# Altium footprint library 4-794618-6.PcbLib: 2 footprints
Each footprint in its own frame and in the unit in brackets; x right, y up, seen from the top. Pads: shape width x height; smd on the part's side, far side on the other; paste and mask are expansions set on the pad; w line width, h text height; cw(c..) or ccw(c..) is an arc to the next point about the centre after c.
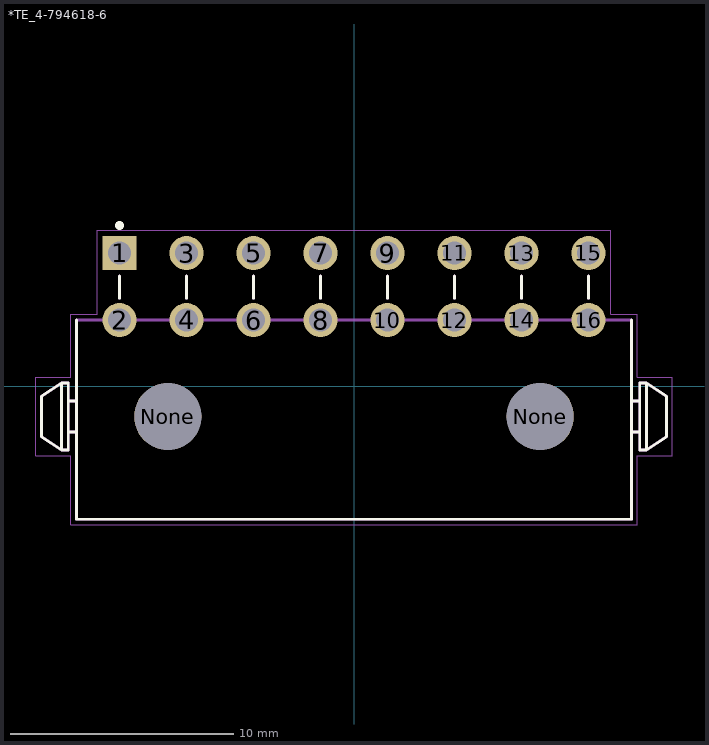
[diagram p0: the footprints below, top view; thin cyan lines are the x and y axes]

## *TE_4-794618-6 [mm]
pads (18):
  rect 1.53x1.53 hole 1.02: 1(-10.5,5.96)
  round 1.53 hole 1.02: 2(-10.5,2.96) 3(-7.5,5.96) 4(-7.5,2.96) 5(-4.5,5.96) 6(-4.5,2.96) 7(-1.5,5.96) 8(-1.5,2.96) 9(1.5,5.96) 10(1.5,2.96) 11(4.5,5.96) 12(4.5,2.96) 13(7.5,5.96) 14(7.5,2.96) 15(10.5,5.96) 16(10.5,2.96)
  round 3 hole 3 unplated: None(-8.34,-1.36) None(8.34,-1.36)
Top Overlay:
  circle w0.2: c-10.5,7.198 r0.1
  lines w0.127: -12.5,-2.06 -12.8,-2.06 ; -12.5,-0.66 -12.8,-0.66 ; -12.43,2.96 -12.43,-5.96 12.43,-5.96 12.43,2.96 ; -10.5,3.94 -10.5,4.94 ; -7.5,3.94 -7.5,4.94 ; -4.5,3.94 -4.5,4.94 ; -1.5,3.94 -1.5,4.94 ; 1.5,3.94 1.5,4.94 ; 4.5,3.94 4.5,4.94 ; 7.5,3.94 7.5,4.94 ; 10.5,3.94 10.5,4.94 ; 12.5,-2.06 12.8,-2.06 ; 12.5,-0.66 12.8,-0.66 ; -13.1,-2.86 -14,-2.26 -14,-0.46 -13.1,0.14 ; -13.1,-2.86 -13.1,0.14 ; -13.1,-2.86 -12.8,-2.86 -12.8,-2.06 ; -13.1,0.14 -12.8,0.14 -12.8,-0.66 ; -12.8,-2.06 -12.8,-0.66 ; 12.8,-2.06 12.8,-0.66 ; 12.8,-2.06 12.8,-2.86 13.1,-2.86 ; 12.8,-0.66 12.8,0.14 13.1,0.14 ; 13.1,-2.86 14,-2.26 14,-0.46 13.1,0.14 ; 13.1,-2.86 13.1,0.14
Mechanical 4:
  lines w0.127: -14,-2.26 -13.1,-2.86 ; -14,-2.26 -14,-0.46 ; -14,-2.26 -13.1,-2.86 ; -14,-2.26 -14,-0.46 ; -14,-0.46 -13.1,0.14 ; -14,-0.46 -13.1,0.14 ; -13.1,-2.86 -13.1,0.14 ; -13.1,-2.86 -12.8,-2.86 ; -13.1,-2.86 -13.1,0.14 ; -13.1,-2.86 -12.8,-2.86 ; -13.1,0.14 -12.8,0.14 ; -13.1,0.14 -12.8,0.14 ; -12.8,-2.86 -12.8,-2.06 ; -12.8,-2.86 -12.8,-2.06 ; -12.8,-2.06 -12.8,-0.66 ; -12.8,-2.06 -12.5,-2.06 -12.8,-2.06 ; -12.8,-2.06 -12.8,-0.66 ; -12.8,-0.66 -12.8,0.14 ; -12.8,-0.66 -12.5,-0.66 -12.8,-0.66 ; -12.8,-0.66 -12.8,0.14 ; -12.43,-5.96 -12.43,2.96 ; -12.43,-5.96 12.43,-5.96 ; -12.43,-5.96 -12.43,2.96 ; -12.43,-5.96 12.43,-5.96 ; -12.43,2.96 12.43,2.96 ; -12.43,2.96 12.43,2.96 ; 12.43,-5.96 12.43,2.96 ; 12.43,-5.96 12.43,2.96 ; 12.8,-2.86 13.1,-2.86 ; 12.8,-2.86 12.8,-2.06 ; 12.8,-2.86 13.1,-2.86 ; 12.8,-2.86 12.8,-2.06 ; 12.8,-2.06 12.8,-0.66 ; 12.8,-2.06 12.5,-2.06 12.8,-2.06 ; 12.8,-2.06 12.8,-0.66 ; 12.8,-0.66 12.8,0.14 ; 12.8,-0.66 12.5,-0.66 12.8,-0.66 ; 12.8,-0.66 12.8,0.14 ; 12.8,0.14 13.1,0.14 ; 12.8,0.14 13.1,0.14 ; 13.1,-2.86 14,-2.26 ; 13.1,-2.86 13.1,0.14 ; 13.1,-2.86 14,-2.26 ; 13.1,-2.86 13.1,0.14 ; 13.1,0.14 14,-0.46 ; 13.1,0.14 14,-0.46 ; 14,-2.26 14,-0.46 ; 14,-2.26 14,-0.46 ; -10.5,3.94 -10.5,4.94 -10.5,3.94 ; -7.5,3.94 -7.5,4.94 -7.5,3.94 ; -4.5,3.94 -4.5,4.94 -4.5,3.94 ; -1.5,3.94 -1.5,4.94 -1.5,3.94 ; 1.5,3.94 1.5,4.94 1.5,3.94 ; 4.5,3.94 4.5,4.94 4.5,3.94 ; 7.5,3.94 7.5,4.94 7.5,3.94 ; 10.5,3.94 10.5,4.94 10.5,3.94
Mechanical 16:
  lines w0.05: -14.25,-3.11 -14.25,0.39 -12.68,0.39 -12.68,3.21 -11.5,3.21 -11.5,6.99 11.5,6.99 11.5,3.21 12.68,3.21 12.68,0.39 14.25,0.39 14.25,-3.11 12.68,-3.11 12.68,-6.21 -12.68,-6.21 -12.68,-3.11 -14.25,-3.11

## PCBComponent_1 [mm]